# Altium footprint library Capacitor_10uf_0805.PcbLib: 1 footprints
Each footprint in its own frame and in the unit in brackets; x right, y up, seen from the top. Pads: shape width x height; smd on the part's side, far side on the other; paste and mask are expansions set on the pad; w line width, h text height; cw(c..) or ccw(c..) is an arc to the next point about the centre after c.
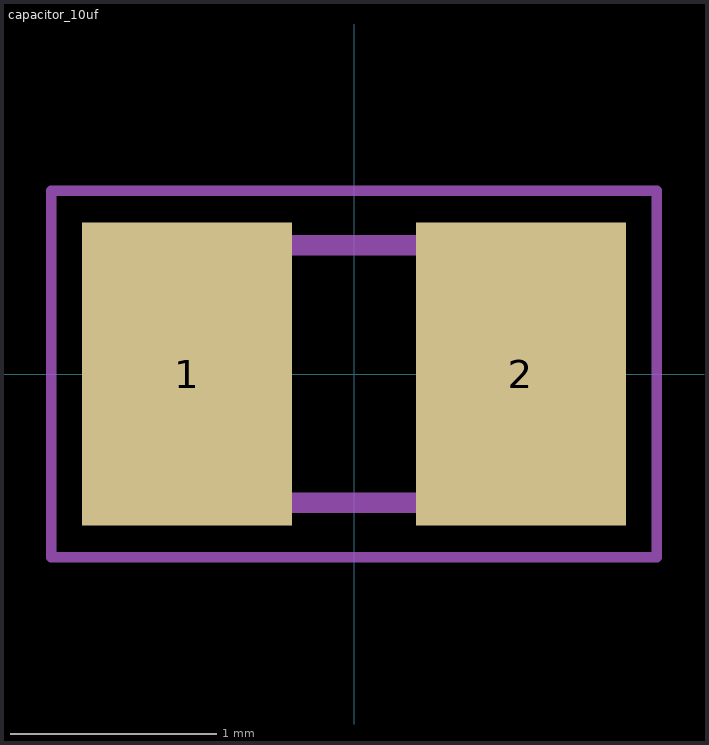
[diagram p0: the footprint, top view; thin cyan lines are the x and y axes]

## capacitor_10uf [mm]
pads (2):
  rect 1.02x1.47 smd: 1(-0.81,0) 2(0.81,0)
L15 (Multiple PADS layers...):
  lines w0.1: -1.005,-0.625 -1.005,0.625 1.005,0.625 1.005,-0.625 -1.005,-0.625
L20:
  lines w0.05: -1.47,-0.89 -1.47,0.89 1.47,0.89 1.47,-0.89 -1.47,-0.89